# EAGLE library part CY8C29666-24LFXI (library 00_koarl-div)
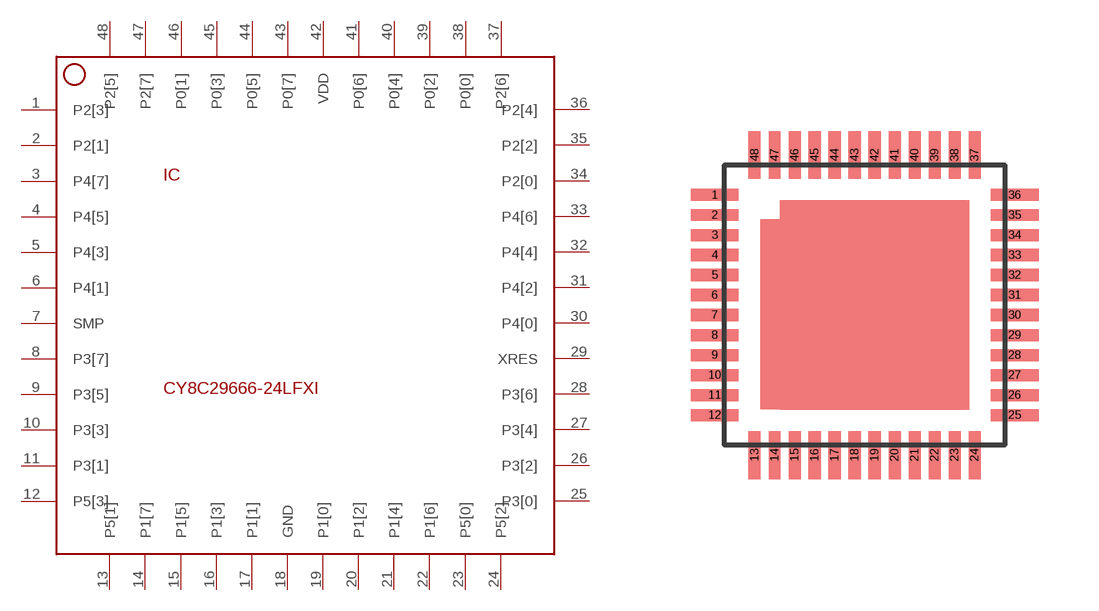
[diagram p14: symbol with the pads of MLF48; footprint MLF48]

Designator prefix IC

## CY8C29666-24LFXI  [MLF48]
1  P2[3]
2  P2[1]
3  P4[7]
4  P4[5]
5  P4[3]
6  P4[1]
7  SMP  out
8  P3[7]
9  P3[5]
10  P3[3]
11  P3[1]
12  P5[3]
13  P5[1]
14  P1[7]
15  P1[5]
16  P1[3]
17  P1[1]
18  GND  pwr
19  P1[0]
20  P1[2]
21  P1[4]
22  P1[6]
23  P5[0]
24  P5[2]
25  P3[0]
26  P3[2]
27  P3[4]
28  P3[6]
29  XRES  in
30  P4[0]
31  P4[2]
32  P4[4]
33  P4[6]
34  P2[0]
35  P2[2]
36  P2[4]
37  P2[6]
38  P0[0]
39  P0[2]
40  P0[4]
41  P0[6]
42  VDD  pwr
43  P0[7]
44  P0[5]
45  P0[3]
46  P0[1]
47  P2[7]
48  P2[5]

## Footprint MLF48 (pad centres in mm)
smd 1.2 x 0.3: 1 -3.5,3; 2 -3.5,2.5; 3 -3.5,2; 4 -3.5,1.5; 5 -3.5,1; 6 -3.5,0.5; 7 -3.5,0; 8 -3.5,-0.5; 9 -3.5,-1; 10 -3.5,-1.5; 11 -3.5,-2; 12 -3.5,-2.5; 25 4,-2.5; 26 4,-2; 27 4,-1.5; 28 4,-1; 29 4,-0.5; 30 4,0; 31 4,0.5; 32 4,1; 33 4,1.5; 34 4,2; 35 4,2.5; 36 4,3
smd 0.3 x 1.2: 13 -2.5,-3.5; 14 -2,-3.5; 15 -1.5,-3.5; 16 -1,-3.5; 17 -0.5,-3.5; 18 0,-3.5; 19 0.5,-3.5; 20 1,-3.5; 21 1.5,-3.5; 22 2,-3.5; 23 2.5,-3.5; 24 3,-3.5; 37 3,4; 38 2.5,4; 39 2,4; 40 1.5,4; 41 1,4; 42 0.5,4; 43 0,4; 44 -0.5,4; 45 -1,4; 46 -1.5,4; 47 -2,4; 48 -2.5,4